# Altium schematic symbol library CK.SchLib: 1 symbol
Pins are listed as number, name and electrical type; pins without a type are passive.

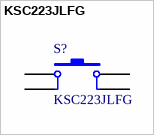
[diagram p0: symbol KSC223JLFG]

## KSC223JLFG
designator S?
SWITCH TACTILE SPST-NO 0.01A 32V; Manufacturer: C&K; Part Number: KSC223JLFG; Supplier 1: Digi-Key; Supplier Part Number 1: CKN12117CT-ND; Supplier 2: Mouser; Supplier Part Number 2: 611-KSC223JLFG
footprint KSC_J
pins: 1, 2, 3, 4